# Altium footprint library 常用元件封装.PCBLIB: 174 footprints (part 5 of 11)
Each footprint in its own frame and in the unit in brackets; x right, y up, seen from the top. Pads: shape width x height; smd on the part's side, far side on the other; paste and mask are expansions set on the pad; w line width, h text height; cw(c..) or ccw(c..) is an arc to the next point about the centre after c.
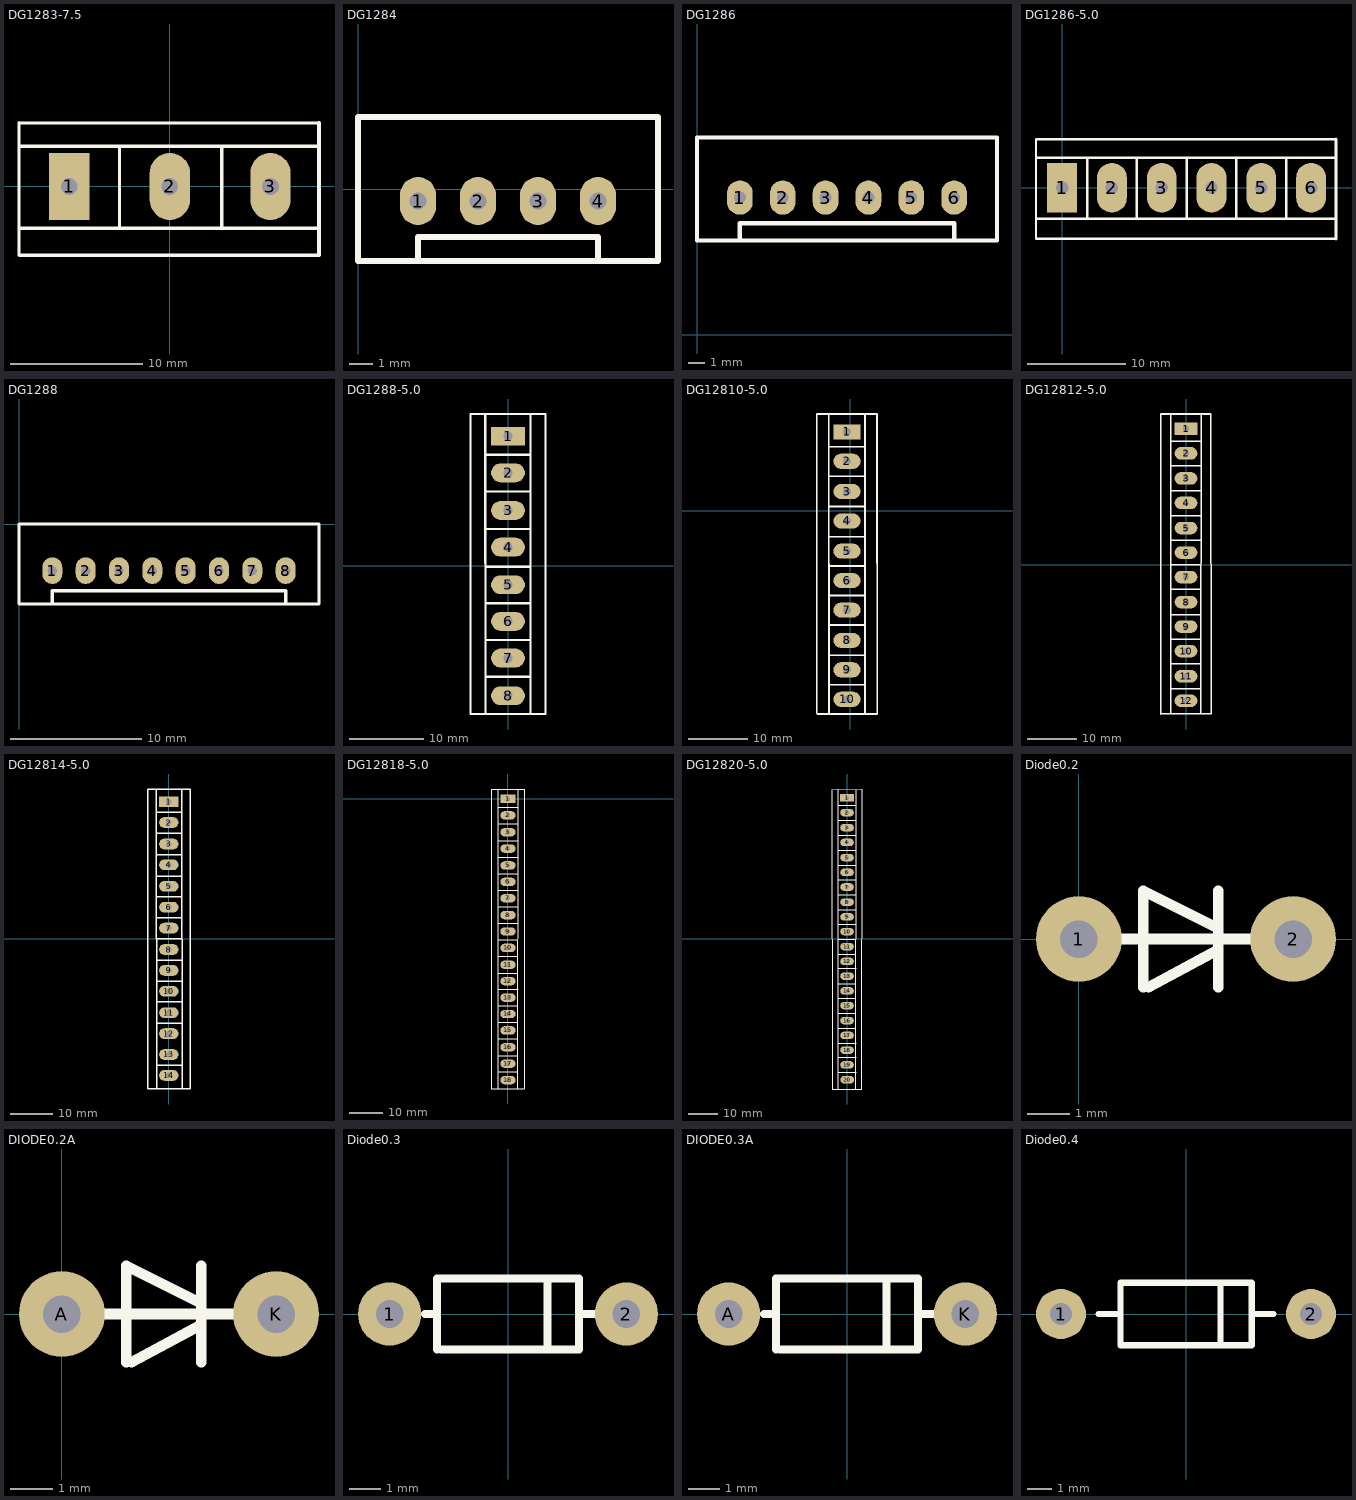
[diagram p4: the footprints below, top view; thin cyan lines are the x and y axes]

## DG1283-7.5 [mil]
pads (3):
  rect 120x200 hole 50: 1(-300,0)
  oval 120x200 hole 50: 2(0,0) 3(300,0)
TopOverlay:
  lines w10: -450,-125 445,-125 ; -450,120 445,120 ; -450,186 -450,-205 445,-205 ; -450,190 445,189 ; -150,-124 -150,120 ; 155,-125 155,120
  lines w12: 445,-205 445,189

## DG1284 [mil]
pads (4):
  oval 60x80 hole 27.56: 1(100,-20) 2(200,-20) 3(300,-20) 4(400,-20)
TopOverlay:
  lines w10: 100,-120 100,-80 400,-80 400,-120 ; 0,-120 0,0 0,120 500,120 500,-120 480,-120 0,-120

## DG1286 [mil]
pads (6):
  oval 60x80 hole 27.56: 1(100,320) 2(200,320) 3(300,320) 4(400,320) 5(500,320) 6(600,320)
TopOverlay:
  lines w10: 100,220 100,260 400,260 600,260 600,220 ; 0,220 480,220 500,220 700,220 700,460 500,460 0,460 0,340 0,220

## DG1286-5.0 [mil]
pads (6):
  rect 120x200 hole 50: 1(0,0)
  oval 120x200 hole 50: 2(200,0) 3(400,0) 4(600,0) 5(800,0) 6(1000,0)
TopOverlay:
  lines w10: -105,-203 -105,-205 1100,-205 ; -105,-200 -105,191 ; -105,-125 1100,-125 ; -105,120 1100,120 ; -105,195 1095,195 ; 100,-124 100,120 ; 300,-125 300,120 ; 500,-125 500,120 ; 700,-125 700,120 ; 900,-125 900,120
  lines w12: 1100,-205 1100,195

## DG1288 [mil]
pads (8):
  oval 60x80 hole 27.56: 1(100,-140) 2(200,-140) 3(300,-140) 4(400,-140) 5(500,-140) 6(600,-140) 7(700,-140) 8(800,-140)
TopOverlay:
  lines w10: 100,-240 100,-200 400,-200 600,-200 800,-200 800,-240 ; 0,-240 0,-120 0,0 500,0 700,0 900,0 900,-240 700,-240 500,-240 480,-240 0,-240

## DG1288-5.0 [mil]
pads (8):
  rect 180x100 hole 50: 1(0,690)
  oval 180x100 hole 50: 2(0,495) 3(0,295) 4(0,100) 5(0,-100) 6(0,-295) 7(0,-490) 8(0,-690)
TopOverlay:
  lines w12: -121,808 -120,-782.5 ; -117,591 118,591 ; -112,-589 118,-589 ; -112,-394 118,-394 ; -112,-199 118,-199 ; -112,-4 118,-4 ; -112,196 118,196 ; -112,396 118,396 ; 120,-787.5 120,808 ; 199,-787.5 -200,-787.5 -200,808 199,808 200,-787.5

## DG12810-5.0 [mil]
pads (10):
  rect 180x100 hole 50: 1(-20,522.5)
  oval 180x100 hole 50: 2(-20,327.5) 3(-20,127.5) 4(-20,-67.5) 5(-20,-267.5) 6(-20,-462.5) 7(-20,-657.5) 8(-20,-857.5) 9(-20,-1052.5) 10(-20,-1247.5)
TopOverlay:
  lines w12: -220,-1340 -220,640.5 179,640.5 180,-1340 ; -215,-1345 179,-1345 ; -141,640.5 -140,-1340 ; -137,423.5 98,423.5 ; -132,-1151.5 98,-1151.5 ; -132,-956.5 98,-956.5 ; -132,-756.5 98,-756.5 ; -132,-561.5 98,-561.5 ; -132,-366.5 98,-366.5 ; -132,-171.5 98,-171.5 ; -132,28.5 98,28.5 ; -132,228.5 98,228.5 ; 100,-1340 100,640.5

## DG12812-5.0 [mil]
pads (12):
  rect 180x100 hole 50: 1(0,1082.5)
  oval 180x100 hole 50: 2(0,887.5) 3(0,687.5) 4(0,492.5) 5(0,292.5) 6(0,97.5) 7(0,-97.5) 8(0,-297.5) 9(0,-492.5) 10(0,-687.5) 11(0,-887.5) 12(0,-1082.5)
TopOverlay:
  lines w12: -200,-1188 -200,1200.5 199,1200.5 200,-1185 ; -195,-1185 199,-1185 ; -123,-1185 -121,1200.5 ; -117,983.5 118,983.5 ; -112,-986.5 118,-986.5 ; -112,-786.5 118,-786.5 ; -112,-591.5 118,-591.5 ; -112,-396.5 118,-396.5 ; -112,-196.5 118,-196.5 ; -112,-1.5 118,-1.5 ; -112,193.5 118,193.5 ; -112,388.5 118,388.5 ; -112,588.5 118,588.5 ; -112,788.5 118,788.5 ; 117,-1182 120,1200.5

## DG12814-5.0 [mil]
pads (14):
  rect 180x100 hole 50: 1(0,1277.5)
  oval 180x100 hole 50: 2(0,1082.5) 3(0,882.5) 4(0,687.5) 5(0,487.5) 6(0,292.5) 7(0,97.5) 8(0,-102.5) 9(0,-297.5) 10(0,-492.5) 11(0,-692.5) 12(0,-887.5) 13(0,-1082.5) 14(0,-1277.5)
TopOverlay:
  lines w12: -117,1178.5 118,1178.5 ; -116,1395.5 -111,-1404.5 ; -112,-1181.5 118,-1181.5 ; -112,-791.5 118,-791.5 ; -112,-591.5 118,-591.5 ; -112,-396.5 118,-396.5 ; -112,-201.5 118,-201.5 ; -112,-1.5 118,-1.5 ; -112,193.5 118,193.5 ; -112,388.5 118,388.5 ; -112,583.5 118,583.5 ; -112,783.5 118,783.5 ; -112,983.5 118,983.5 ; 120,1395.5 124,-1404.5 ; -195,-1404.5 199,-1404.5 199,1395.5 -195,1395.5 -195,-1404.5

## DG12818-5.0 [mil]
pads (18):
  rect 180x100 hole 50: 1(0,0)
  oval 180x100 hole 50: 2(0,-195) 3(0,-395) 4(0,-590) 5(0,-790) 6(0,-985) 7(0,-1180) 8(0,-1380) 9(0,-1575) 10(0,-1770) 11(0,-1970) 12(0,-2165) 13(0,-2360) 14(0,-2555) 15(0,-2750) 16(0,-2950) 17(0,-3145) 18(0,-3340)
TopOverlay:
  lines w10: -117,-2258.5 123,-2258.5 ; -115.5,-3243 116.5,-3243
  lines w12: -198.5,-3446 195.5,-3446 ; -197,-3446 -198.5,118 199,118 198,-3446 ; -117,-3446 -116,118 ; -117,-99 118,-99 ; -112,-3049 118,-3049 ; -112,-2849 118,-2849 ; -112,-2654 118,-2654 ; -112,-2459 118,-2459 ; -112,-2069 118,-2069 ; -112,-1869 118,-1869 ; -112,-1674 118,-1674 ; -112,-1479 118,-1479 ; -112,-1279 118,-1279 ; -112,-1084 118,-1084 ; -112,-889 118,-889 ; -112,-694 118,-694 ; -112,-494 118,-494 ; -112,-294 118,-294 ; 118,-3446 121,110.5

## DG12820-5.0 [mil]
pads (20):
  rect 180x100 hole 50: 1(-1.5,1866)
  oval 180x100 hole 50: 2(-1.5,1671) 3(-1.5,1471) 4(-1.5,1276) 5(-1.5,1076) 6(-1.5,881) 7(-1.5,686) 8(-1.5,486) 9(-1.5,291) 10(-1.5,96) 11(-1.5,-104) 12(-1.5,-299) 13(-1.5,-494) 14(-1.5,-689) 15(-1.5,-884) 16(-1.5,-1084) 17(-1.5,-1279) 18(-1.5,-1474) 19(-1.5,-1669) 20(1.5,-1866)
TopOverlay:
  lines w10: -121.5,-1379.5 118.5,-1379.5 ; -120.5,-1570.5 119.5,-1570.5 ; -118.5,-392.5 121.5,-392.5
  lines w12: -198.5,-1988.5 195.5,-1988.5 ; -198.5,-1988 -201.5,1976.5 197.5,1984 196.5,-1988.5 ; -118.5,-1988.5 -117.5,1984 ; -118.5,1767 116.5,1767 ; -113.5,-1183 116.5,-1183 ; -113.5,-983 116.5,-983 ; -113.5,-788 116.5,-788 ; -113.5,-593 116.5,-593 ; -113.5,-203 116.5,-203 ; -113.5,-3 116.5,-3 ; -113.5,192 116.5,192 ; -113.5,387 116.5,387 ; -113.5,587 116.5,587 ; -113.5,782 116.5,782 ; -113.5,977 116.5,977 ; -113.5,1172 116.5,1172 ; -113.5,1372 116.5,1372 ; -113.5,1572 116.5,1572 ; -110.5,-1770 119.5,-1770 ; 116.5,-1988.5 119.5,1976.5

## Diode0.2 [mil]
pads (2):
  round 80 hole 35: 1(0,0) 2(200,0)
TopOverlay:
  lines w10: 35,0 160,0 ; 60,-45 60,45 130,10 ; 65,-45 130,-10 ; 130,-45 130,45

## DIODE0.2A [mil]
pads (2):
  round 80 hole 35: A(0,0) K(200,0)
TopOverlay:
  lines w10: 35,0 160,0 ; 60,-45 60,45 130,10 ; 65,-45 130,-10 ; 130,-45 130,45

## Diode0.3 [mil]
pads (2):
  round 80 hole 35: 1(-150,0) 2(150,0)
TopOverlay:
  lines w10: -105,0 -90,0 ; -90,-45 -90,45 90,45 90,-45 -85,-45 ; 50,-45 50,45 ; 90,0 110,0

## DIODE0.3A [mil]
pads (2):
  round 80 hole 35: A(-150,0) K(150,0)
TopOverlay:
  lines w10: -105,0 -90,0 ; -90,-45 -90,45 90,45 90,-45 -85,-45 ; 50,-45 50,45 ; 90,0 110,0

## Diode0.4 [mil]
pads (2):
  round 80 hole 35: 1(-200,0) 2(200,0)
TopOverlay:
  lines w10: -140,0 -105,0 ; 55,-50 55,50 ; 105,0 140,0 ; -105,-50 105,-50 105,50 -105,50 -105,-10 -105,-50